# EAGLE library part 634108149921 (library SD-kart)
WR-MJ_Modular Jack_Tab DOWN_10P8C 10P8C Tab DOWN_T&R with Mylar <http://katalog.we-online.de/media/images/eican/Con_WR-MJ_Horizontal_Plastic_634108149921_pf2.jpg> Details see: http://katalog.we-online.de/en/em/634_108_149_921/634_108_149_921?m Created 2014-10-18, aslant tao 2014 (C) Würth Elektronik
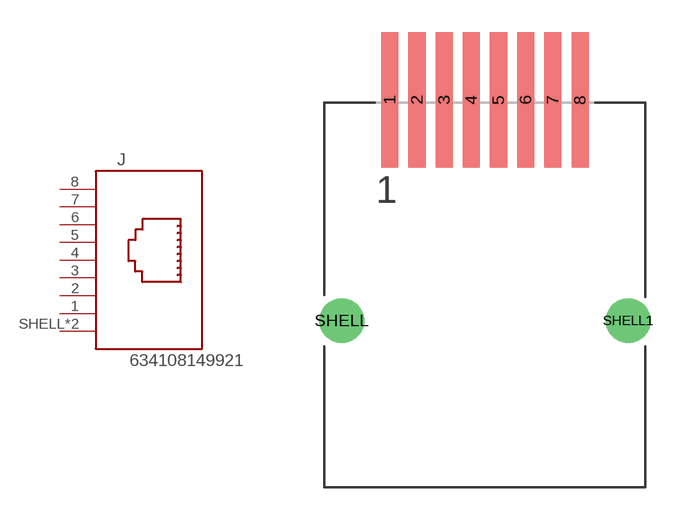
[diagram p165: symbol with the pads of 634108149921; footprint 634108149921]

Designator prefix J

## 634108149921  [634108149921]
1  1  pas
2  2  pas
3  3  pas
4  4  pas
5  5  pas
6  6  pas
7  7  pas
8  8  pas
SHELL  SHIELD  pas
SHELL1  SHIELD  pas

## Footprint 634108149921 (pad centres in mm)
WR-MJ_Modular Jack_Tab DOWN_10P8C 10P8C Tab DOWN_T&R with Mylar
smd 0.8 x 6.35: 1 -4.445,10.325; 2 -3.175,10.325; 3 -1.905,10.325; 4 -0.635,10.325; 5 0.635,10.325; 6 1.905,10.325; 7 3.175,10.325; 8 4.445,10.325
drill 1.4: SHELL -6.7,0; SHELL1 6.7,0